# Altium integrated library Atmel Microcontroller 8-Bit Automotive AVR.IntLib: 187 symbols (part 9 of 9)
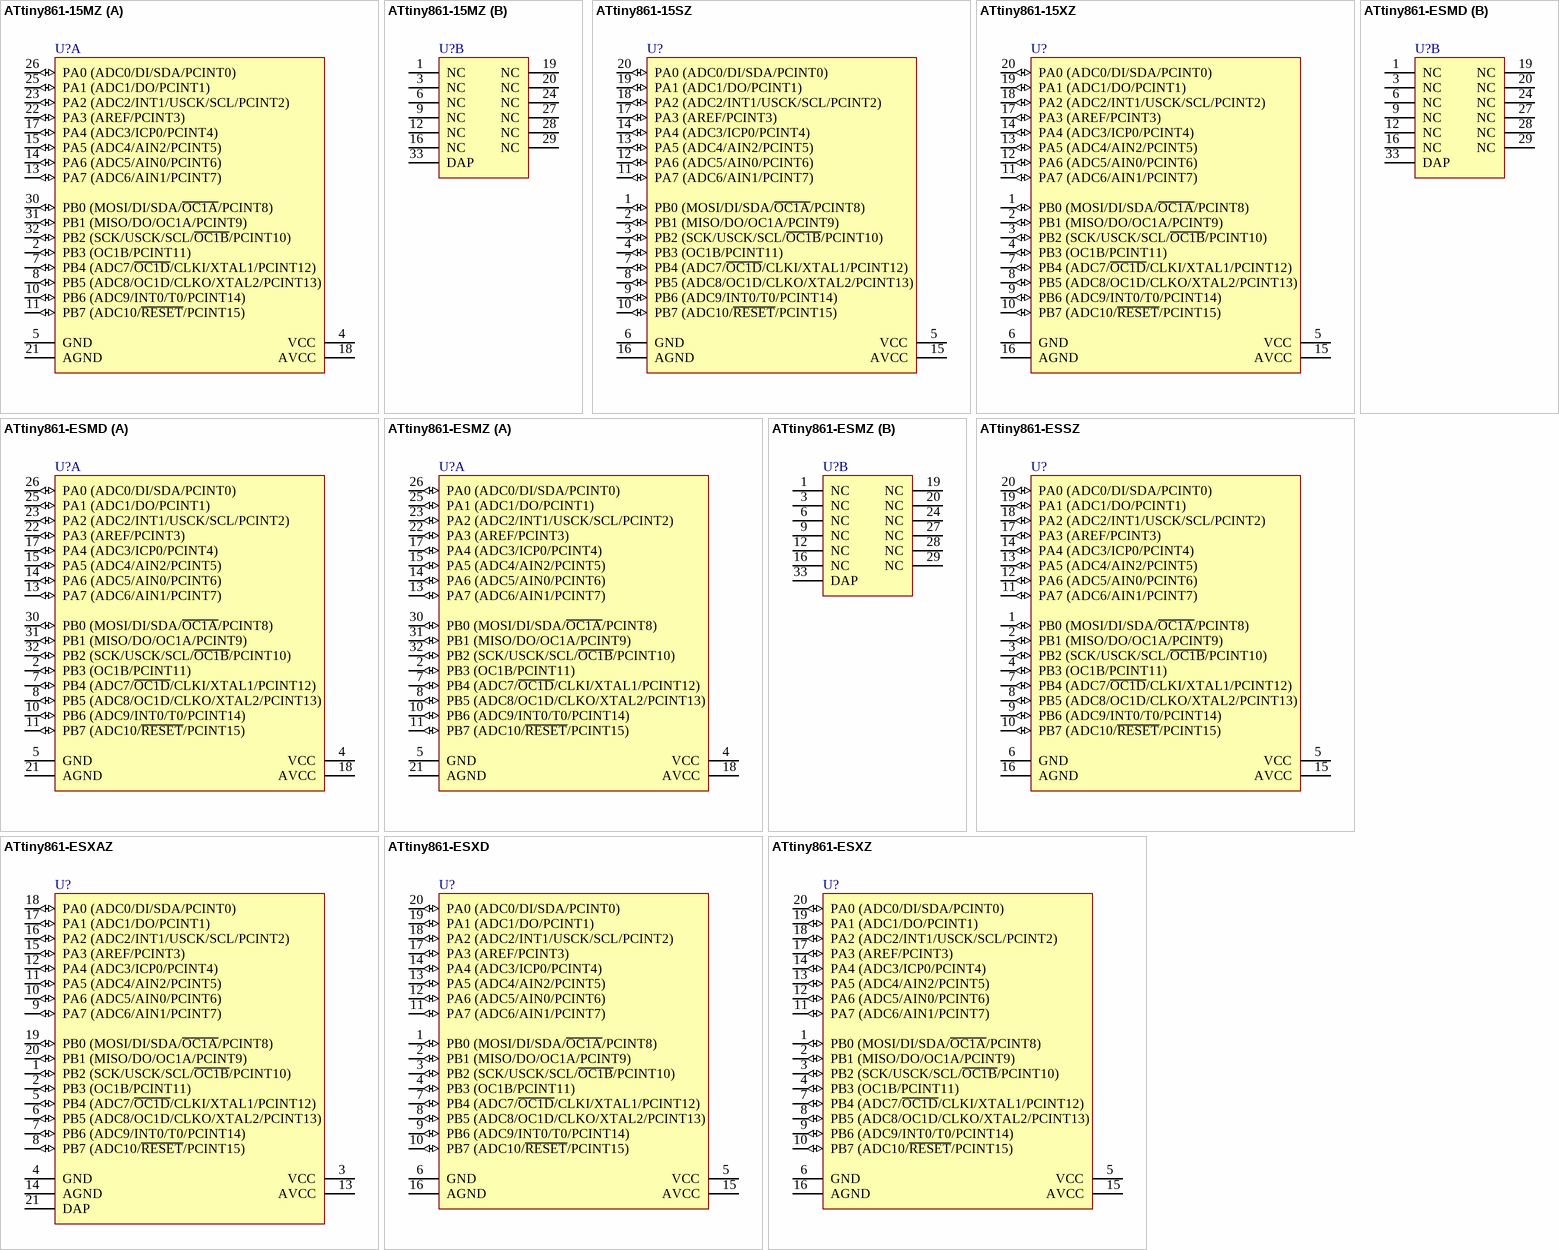
[diagram p29: symbols ATtiny861-15MZ to ATtiny861-ESXZ]

## ATtiny861-ESXZ
designator U?
8-bit Automotive AVR Microcontroller, 8KB Flash, 512 Bytes EEPROM, 512 Bytes SRAM, Automotive Grade (-40°C to +125°C), 20-Pin TSSOP, Engineering Sample; Published: 1-Apr-2010; DatasheetVersion: revD, Nov-2009; PackageVersion: revA, Dec-2007; PackageReference: 6G; Publisher: Altium Limited; PackageDescription: 20-Lead, 4.4 x 6.5 mm Body, 0.65 mm Pitch, Lead Length: 0.6 mm, Thin Shrink Small Outline Package (TSSOP); Code_JEDEC: MO-153-AC; ComponentLink1Description: Manufacturer Link; ComponentLink1URL: http://www.atmel.com/products/avr/default.asp?; ComponentLink2Description: ATiny261/461/861 Datasheet; ComponentLink2URL: http://www.atmel.com/dyn/resources/prod_documents/doc7753.pdf; ComponentLink3Description: ATiny261/461/861 Summary; ComponentLink3URL: http://www.atmel.com/dyn/resources/prod_documents/7753S.pdf; ComponentLink4Description: Atmel.com Home; ComponentLink4URL: http://www.atmel.com
footprint 6G_N (TSOP, 20-Leads, Body 6.5x4.4mm, Pitch 0.65mm, IPC Medium Density)
footprint 6G_L (TSOP, 20-Leads, Body 6.5x4.4mm, Pitch 0.65mm, IPC High Density)
footprint 6G_M (TSOP, 20-Leads, Body 6.5x4.4mm, Pitch 0.65mm, IPC Low Density)
pins: 1 PB0 (MOSI/DI/SDA/~{OC1A}/PCINT8) (io), 2 PB1 (MISO/DO/OC1A/PCINT9) (io), 3 PB2 (SCK/USCK/SCL/~{OC1B}/PCINT10) (io), 4 PB3 (OC1B/PCINT11) (io), 5 VCC (power), 6 GND (power), 7 PB4 (ADC7/~{OC1D}/CLKI/XTAL1/PCINT12) (io), 8 PB5 (ADC8/OC1D/CLKO/XTAL2/PCINT13) (io), 9 PB6 (ADC9/INT0/T0/PCINT14) (io), 10 PB7 (ADC10/~{RESET}/PCINT15) (io), 11 PA7 (ADC6/AIN1/PCINT7) (io), 12 PA6 (ADC5/AIN0/PCINT6) (io), 13 PA5 (ADC4/AIN2/PCINT5) (io), 14 PA4 (ADC3/ICP0/PCINT4) (io), 15 AVCC (power), 16 AGND (power), 17 PA3 (AREF/PCINT3) (io), 18 PA2 (ADC2/INT1/USCK/SCL/PCINT2) (io), 19 PA1 (ADC1/DO/PCINT1) (io), 20 PA0 (ADC0/DI/SDA/PCINT0) (io)